# Altium footprint library D 电容.PCBLIB: 81 footprints (part 1 of 6)
Each footprint in its own frame and in the unit in brackets; x right, y up, seen from the top. Pads: shape width x height; smd on the part's side, far side on the other; paste and mask are expansions set on the pad; w line width, h text height; cw(c..) or ccw(c..) is an arc to the next point about the centre after c.
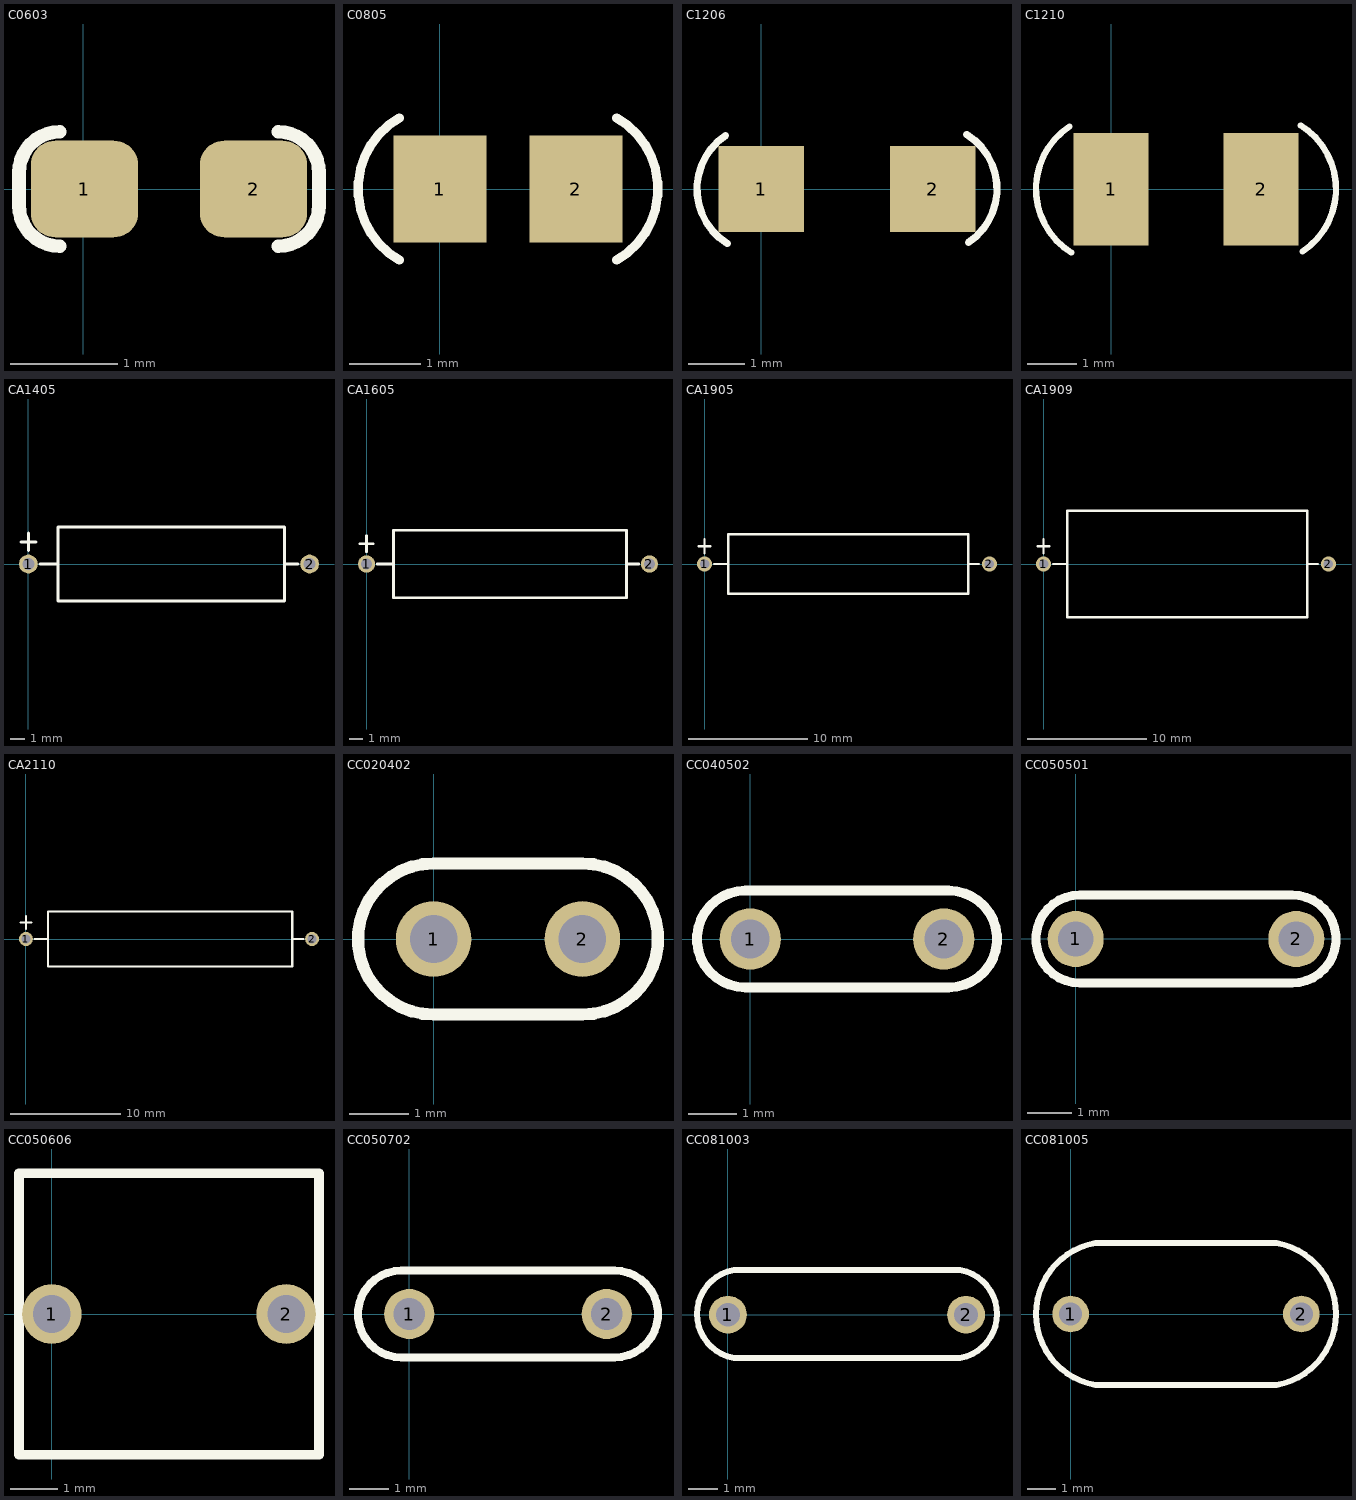
[diagram p0: the footprints below, top view; thin cyan lines are the x and y axes]

## C0603 [mm] "贴片电容0603封装"
height 0.6
pads (2):
  rrect50% 1x0.9 smd: 1(0.013,0) 2(1.587,0)
Top Overlay:
  lines w0.127: -0.216,-0.533 cw(c-0.216,-0.152) -0.597,-0.152 -0.597,0.152 cw(c-0.216,0.152) -0.216,0.533 ; 1.816,-0.533 ccw(c1.816,-0.152) 2.197,-0.152 2.197,0.152 ccw(c1.816,0.152) 1.816,0.533

## C0805 [mm] "贴片电容0805封装"
pads (2):
  rect 1.3x1.5 smd: 1(0,0) 2(1.9,0)
Top Overlay:
  lines w0.127: -0.567,-0.992 cw(c0,0) -0.567,0.992 ; 2.472,-0.992 ccw(c1.905,0) 2.472,0.992

## C1206 [mil] "贴片电容1206封装"
pads (2):
  rect 60x60 smd: 1(0,0) 2(120,0)
Top Overlay:
  lines w5: -24.96,37.44 ccw(c0,0) -23.85,-38.16 ; 143.85,38.16 cw(c120,0) 144.96,-37.44

## C1210 [mil] "贴片电容1210封装"
pads (2):
  rect 60x90 smd: 1(0,0) 2(120,0)
Top Overlay:
  lines w5: -33.28,49.92 ccw(c0,0) -31.8,-50.88 ; 151.8,50.88 cw(c120,0) 153.28,-49.92

## CA1405 [mm] "CA30钽电容，长14mm，直径5mm"
pads (2):
  round 1.27 hole 0.8: 1(0,0) 2(19,0)
Top Overlay:
  lines w0.203: -0.5,1.5 0.5,1.5 ; 0,0.9 0,2.1 ; 0.8,0 2,0 ; 17.3,0 18.2,0 ; 2,-2.5 17.3,-2.5 17.3,2.5 2,2.5 2,-2.5

## CA1605 [mm] "CA30钽电容，长16mm，直径5mm"
pads (2):
  round 1.27 hole 0.8: 1(0,0) 2(21,0)
Top Overlay:
  lines w0.203: -0.5,1.5 0.5,1.5 ; 0,0.9 0,2.1 ; 0.8,0 2,0 ; 19.3,0 20.2,0 ; 2,-2.5 2,2.5 19.3,2.5 19.3,-2.5 2,-2.5

## CA1905 [mm] "CA30钽电容，长19mm，直径5mm"
pads (2):
  round 1.27 hole 0.8: 1(0,0) 2(24,0)
Top Overlay:
  lines w0.203: -0.5,1.5 0.5,1.5 ; 0,0.9 0,2.1 ; 0.8,0 2,0 ; 22.2,0 23.1,0 ; 22.2,2.4 22.2,-2.5 2,-2.5 2,2.5 22.2,2.5

## CA1909 [mm] "CA30钽电容，长19mm，直径9mm"
pads (2):
  round 1.27 hole 0.8: 1(0,0) 2(24,0)
Top Overlay:
  lines w0.203: -0.5,1.5 0.5,1.5 ; 0,0.9 0,2.1 ; 0.8,0 2,0 ; 22.2,0 23.1,0 ; 2,-4.5 22.2,-4.5 22.2,4.5 2,4.5 2,-4.5

## CA2110 [mm] "CA30钽电容，长21mm，直径10mm"
pads (2):
  round 1.27 hole 0.8: 1(0,0) 2(26,0)
Top Overlay:
  lines w0.203: -0.5,1.5 0.5,1.5 ; 0,0.9 0,2.1 ; 0.8,0 2,0 ; 24.3,0 25.2,0 ; 2,-2.5 2,2.5 24.2,2.5 24.2,-2.5 2,-2.5

## CC020402 [mm] "瓷片电容/脚距2.5mm/长4mm/宽2mm/高5mm"
height 5
pads (2):
  round 1.27 hole 0.8: 1(0,0) 2(2.5,0)
Top Overlay:
  lines w0.203: 0,-1.27 cw(c0,0) 0,1.27 2.5,1.27 cw(c2.5,0) 2.5,-1.27 0,-1.27

## CC040502 [mm] "瓷片电容/脚距4mm/长5.5mm/宽2mm/高9mm"
height 9
pads (2):
  round 1.27 hole 0.8: 1(0,0) 2(4,0)
Top Overlay:
  lines w0.203: -0.1,-1 cw(c-0.1,0) -0.1,1 4.1,1 cw(c4.1,0) 4.1,-1 -0.1,-1

## CC050501 [mm] "瓷片电容/脚距5mm/长5mm/宽1mm/高6mm"
height 6
pads (2):
  round 1.27 hole 0.8: 1(0,0) 2(5,0)
Top Overlay:
  lines w0.203: 0.1,-1 cw(c0.1,0) 0.1,1 4.9,1 cw(c4.9,0) 4.9,-1 0.1,-1

## CC050606 [mm] "瓷片电容/脚距5mm/长6mm/宽6mm/高6mm"
height 6
pads (2):
  round 1.27 hole 0.8: 1(0,0) 2(5,0)
Top Overlay:
  lines w0.203: -0.7,-3 5.7,-3 5.7,3 -0.7,3 -0.7,-3

## CC050702 [mm] "瓷片电容/脚距5mm/长7mm/宽2mm/高8.5mm"
height 8.5
pads (2):
  round 1.27 hole 0.8: 1(0,0) 2(5,0)
Top Overlay:
  lines w0.203: -0.2,-1.1 cw(c-0.2,0) -0.2,1.1 5.2,1.1 cw(c5.2,0) 5.2,-1.1 -0.2,-1.1

## CC081003 [mm] "瓷片电容/脚距8.5mm/长10mm/宽3mm/高12mm"
height 12
pads (2):
  round 1.27 hole 0.8: 1(0,0) 2(8,0)
Top Overlay:
  lines w0.203: 0.2,-1.454 cw(c0.46,0.023) 0.2,1.5 7.8,1.5 cw(c7.54,0.023) 7.8,-1.454 0.2,-1.454

## CC081005 [mm] "瓷片电容/脚距8.5mm/长10mm/宽5mm/高12mm"
height 12
pads (2):
  round 1.27 hole 0.8: 1(0,0) 2(8,0)
Top Overlay:
  lines w0.203: 0.866,-2.462 cw(c1.3,0) 0.866,2.462 7.134,2.462 cw(c6.7,0) 7.134,-2.462 0.866,-2.462